# Altium schematic symbol library uBlox.SchLib: 4 symbols
Pins are listed as number, name and electrical type; pins without a type are passive.

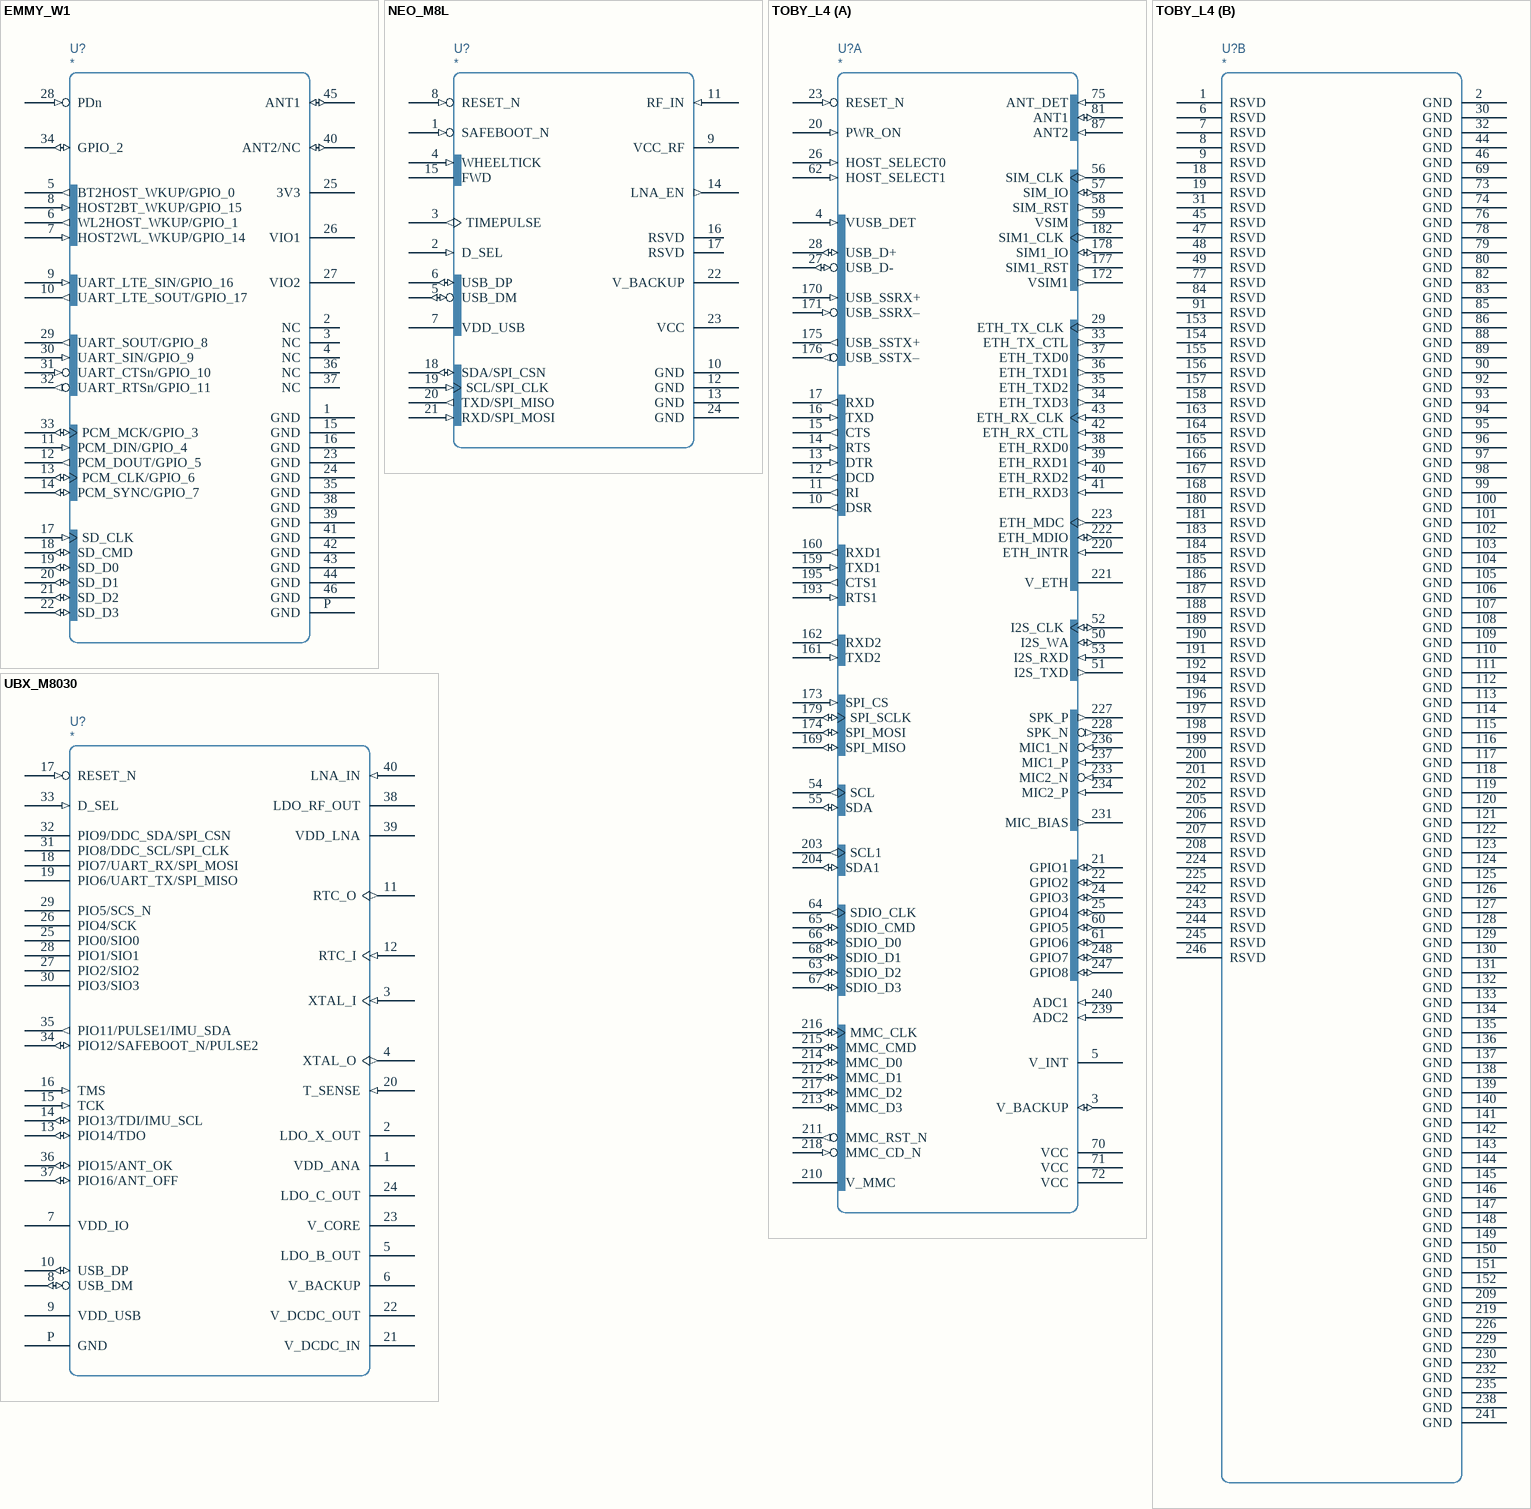
[diagram p0: symbols EMMY_W1 to UBX_M8030]

## EMMY_W1
designator U?
pins: 1 GND, 2 NC, 3 NC, 4 NC, 5 BT2HOST_WKUP/GPIO_0 (out), 6 WL2HOST_WKUP/GPIO_1 (out), 7 HOST2WL_WKUP/GPIO_14 (in), 8 HOST2BT_WKUP/GPIO_15 (in), 9 UART_LTE_SIN/GPIO_16 (in), 10 UART_LTE_SOUT/GPIO_17 (out), 11 PCM_DIN/GPIO_4 (in), 12 PCM_DOUT/GPIO_5 (out), 13 PCM_CLK/GPIO_6 (io), 14 PCM_SYNC/GPIO_7 (io), 15 GND, 16 GND, 17 SD_CLK (in), 18 SD_CMD (io), 19 SD_D0 (io), 20 SD_D1 (io), 21 SD_D2 (io), 22 SD_D3 (io), 23 GND, 24 GND, 25 3V3, 26 VIO1, 27 VIO2, 28 PDn (in), 29 UART_SOUT/GPIO_8 (out), 30 UART_SIN/GPIO_9 (in), 31 UART_CTSn/GPIO_10 (in), 32 UART_RTSn/GPIO_11 (out), 33 PCM_MCK/GPIO_3 (io), 34 GPIO_2 (io), 35 GND, 36 NC, 37 NC, 38 GND, 39 GND, 40 ANT2/NC (io), 41 GND, 42 GND, 43 GND, 44 GND, 45 ANT1 (io), 46 GND, P GND

## NEO_M8L
designator U?
pins: 1 SAFEBOOT_N (in), 2 D_SEL (in), 3 TIMEPULSE (out), 4 WHEELTICK (in), 5 USB_DM (io), 6 USB_DP (io), 7 VDD_USB, 8 RESET_N (in), 9 VCC_RF, 10 GND, 11 RF_IN (in), 12 GND, 13 GND, 14 LNA_EN (out), 15 FWD, 16 RSVD, 17 RSVD, 18 SDA/SPI_CSN (io), 19 SCL/SPI_CLK (in), 20 TXD/SPI_MISO (out), 21 RXD/SPI_MOSI (in), 22 V_BACKUP, 23 VCC, 24 GND

## TOBY_L4
designator U?
part A pins: 3 V_BACKUP (io), 4 VUSB_DET (in), 5 V_INT (power), 10 DSR (out), 11 RI (out), 12 DCD (out), 13 DTR (in), 14 RTS (in), 15 CTS (out), 16 TXD (in), 17 RXD (out), 20 PWR_ON (in), 21 GPIO1 (io), 22 GPIO2 (io), 23 RESET_N (in), 24 GPIO3 (io), 25 GPIO4 (io), 26 HOST_SELECT0 (in), 27 USB_D- (io), 28 USB_D+ (io), 29 ETH_TX_CLK (out), 33 ETH_TX_CTL (out), 34 ETH_TXD3 (out), 35 ETH_TXD2 (out), 36 ETH_TXD1 (out), 37 ETH_TXD0 (out), 38 ETH_RXD0 (in), 39 ETH_RXD1 (in), 40 ETH_RXD2 (in), 41 ETH_RXD3 (in), 42 ETH_RX_CTL (in), 43 ETH_RX_CLK (in), 50 I2S_WA (io), 51 I2S_TXD (out), 52 I2S_CLK (io), 53 I2S_RXD (in), 54 SCL (out), 55 SDA (io), 56 SIM_CLK (out), 57 SIM_IO (io), 58 SIM_RST (out), 59 VSIM (out), 60 GPIO5 (io), 61 GPIO6 (io), 62 HOST_SELECT1 (in), 63 SDIO_D2 (io), 64 SDIO_CLK (out), 65 SDIO_CMD (io), 66 SDIO_D0 (io), 67 SDIO_D3 (io), 68 SDIO_D1 (io), 70 VCC, 71 VCC, 72 VCC, 75 ANT_DET (in), 81 ANT1 (io), 87 ANT2 (in), 159 TXD1 (in), 160 RXD1 (out), 161 TXD2 (in), 162 RXD2 (out), 169 SPI_MISO (io), 170 USB_SSRX+ (in), 171 USB_SSRX– (in), 172 VSIM1 (out), 173 SPI_CS (in), 174 SPI_MOSI (io), 175 USB_SSTX+ (out), 176 USB_SSTX– (out), 177 SIM1_RST (out), 178 SIM1_IO (io), 179 SPI_SCLK (io), 182 SIM1_CLK (out), 193 RTS1 (in), 195 CTS1 (out), 203 SCL1 (out), 204 SDA1 (io), 210 V_MMC (power), 211 MMC_RST_N (out), 212 MMC_D1 (io), 213 MMC_D3 (io), 214 MMC_D0 (io), 215 MMC_CMD (io), 216 MMC_CLK (io), 217 MMC_D2 (io), 218 MMC_CD_N (in), 220 ETH_INTR (in), 221 V_ETH (power), 222 ETH_MDIO (io), 223 ETH_MDC (out), 227 SPK_P (out), 228 SPK_N (out), 231 MIC_BIAS (out), 233 MIC2_N (in), 234 MIC2_P (in), 236 MIC1_N (in), 237 MIC1_P (in), 239 ADC2 (in), 240 ADC1 (in), 247 GPIO8 (io), 248 GPIO7 (io)
part B pins: 1 RSVD, 2 GND, 6 RSVD, 7 RSVD, 8 RSVD, 9 RSVD, 18 RSVD, 19 RSVD, 30 GND, 31 RSVD, 32 GND, 44 GND, 45 RSVD, 46 GND, 47 RSVD, 48 RSVD, 49 RSVD, 69 GND, 73 GND, 74 GND, 76 GND, 77 RSVD, 78 GND, 79 GND, 80 GND, 82 GND, 83 GND, 84 RSVD, 85 GND, 86 GND, 88 GND, 89 GND, 90 GND, 91 RSVD, 92 GND, 93 GND, 94 GND, 95 GND, 96 GND, 97 GND, 98 GND, 99 GND, 100 GND, 101 GND, 102 GND, 103 GND, 104 GND, 105 GND, 106 GND, 107 GND, 108 GND, 109 GND, 110 GND, 111 GND, 112 GND, 113 GND, 114 GND, 115 GND, 116 GND, 117 GND, 118 GND, 119 GND, 120 GND, 121 GND, 122 GND, 123 GND, 124 GND, 125 GND, 126 GND, 127 GND, 128 GND, 129 GND, 130 GND, 131 GND, 132 GND, 133 GND, 134 GND, 135 GND, 136 GND, 137 GND, 138 GND, 139 GND, 140 GND, 141 GND, 142 GND, 143 GND, 144 GND, 145 GND, 146 GND, 147 GND, 148 GND, 149 GND, 150 GND, 151 GND, 152 GND, 153 RSVD, 154 RSVD, 155 RSVD, 156 RSVD, 157 RSVD, 158 RSVD, 163 RSVD, 164 RSVD, 165 RSVD, 166 RSVD, 167 RSVD, 168 RSVD, 180 RSVD, 181 RSVD, 183 RSVD, 184 RSVD, 185 RSVD, 186 RSVD, 187 RSVD, 188 RSVD, 189 RSVD, 190 RSVD, 191 RSVD, 192 RSVD, 194 RSVD, 196 RSVD, 197 RSVD, 198 RSVD, 199 RSVD, 200 RSVD, 201 RSVD, 202 RSVD, 205 RSVD, 206 RSVD, 207 RSVD, 208 RSVD, 209 GND, 219 GND, 224 RSVD, 225 RSVD, 226 GND, 229 GND, 230 GND, 232 GND, 235 GND, 238 GND, 241 GND, 242 RSVD, 243 RSVD, 244 RSVD, 245 RSVD, 246 RSVD

## UBX_M8030
designator U?
pins: 1 VDD_ANA, 2 LDO_X_OUT, 3 XTAL_I (in), 4 XTAL_O (out), 5 LDO_B_OUT, 6 V_BACKUP, 7 VDD_IO, 8 USB_DM (io), 9 VDD_USB, 10 USB_DP (io), 11 RTC_O (out), 12 RTC_I (in), 13 PIO14/TDO (io), 14 PIO13/TDI/IMU_SCL (io), 15 TCK (in), 16 TMS (in), 17 RESET_N (in), 18 PIO7/UART_RX/SPI_MOSI, 19 PIO6/UART_TX/SPI_MISO, 20 T_SENSE (in), 21 V_DCDC_IN, 22 V_DCDC_OUT, 23 V_CORE, 24 LDO_C_OUT, 25 PIO0/SIO0, 26 PIO4/SCK, 27 PIO2/SIO2, 28 PIO1/SIO1, 29 PIO5/SCS_N, 30 PIO3/SIO3, 31 PIO8/DDC_SCL/SPI_CLK, 32 PIO9/DDC_SDA/SPI_CSN, 33 D_SEL (in), 34 PIO12/SAFEBOOT_N/PULSE2 (io), 35 PIO11/PULSE1/IMU_SDA (out), 36 PIO15/ANT_OK (io), 37 PIO16/ANT_OFF (io), 38 LDO_RF_OUT, 39 VDD_LNA, 40 LNA_IN (in), P GND